# EAGLE library part MP1584EN (library dword1511-pmic-dcdc)
3A 1.5MHz 28V Step-Down Converter
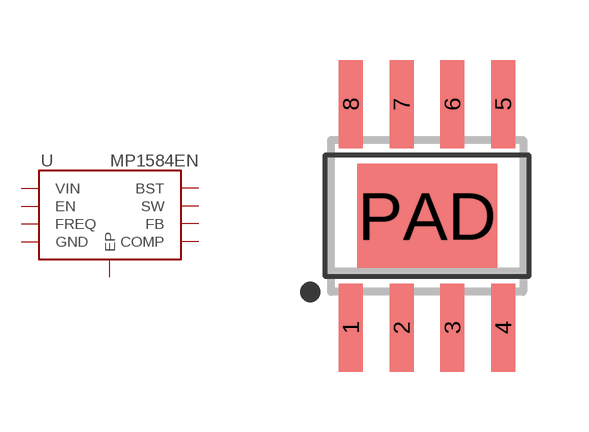
[diagram p16: symbol with the pads of SOIC-8P; footprint SOIC-8P]

Designator prefix U

## MP1584EN  [SOIC-8P]
1  SW  out
2  EN  in
3  COMP  out
4  FB  in
5  GND  pwr
6  FREQ  out
7  VIN  pwr
8  BST  out
PAD  EP  pwr

## Footprint SOIC-8P (pad centres in mm)
smd 0.6 x 2.2: 1 -1.905,-2.794; 2 -0.635,-2.794; 3 0.635,-2.794; 4 1.905,-2.794; 5 1.905,2.794; 6 0.635,2.794; 7 -0.635,2.794; 8 -1.905,2.794
smd 3.5 x 2.6: PAD 0,0